# EAGLE library part GEC06DABN-M30 (library con-sullins)
HEADER - Vertical
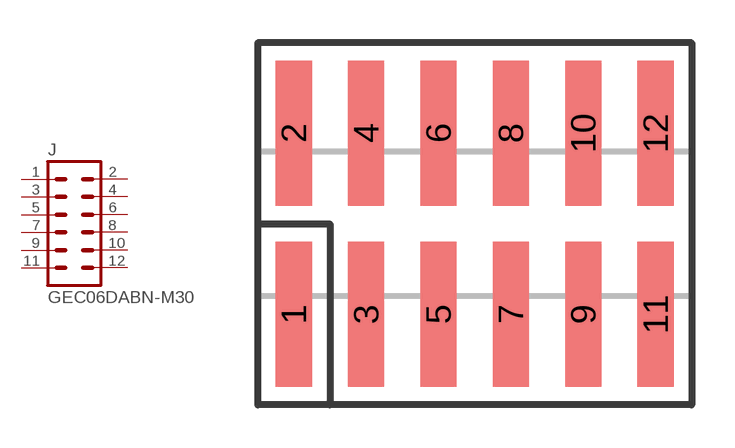
[diagram p3: symbol with the pads of GXC06; footprint GXC06]

Designator prefix J

## GEC06DABN-M30  [GXC06]
1  1  pas
2  2  pas
3  3  pas
4  4  pas
5  5  pas
6  6  pas
7  7  pas
8  8  pas
9  9  pas
10  10  pas
11  11  pas
12  12  pas

## Footprint GXC06 (pad centres in mm)
SMD HEADER - 0.1", Vertical
smd 1.27 x 5.08: 1 -6.35,-3.175; 2 -6.35,3.175; 3 -3.81,-3.175; 4 -3.81,3.175; 5 -1.27,-3.175; 6 -1.27,3.175; 7 1.27,-3.175; 8 1.27,3.175; 9 3.81,-3.175; 10 3.81,3.175; 11 6.35,-3.175; 12 6.35,3.175